# EAGLE library part AS1130 (library Strutz Electronic Industries)
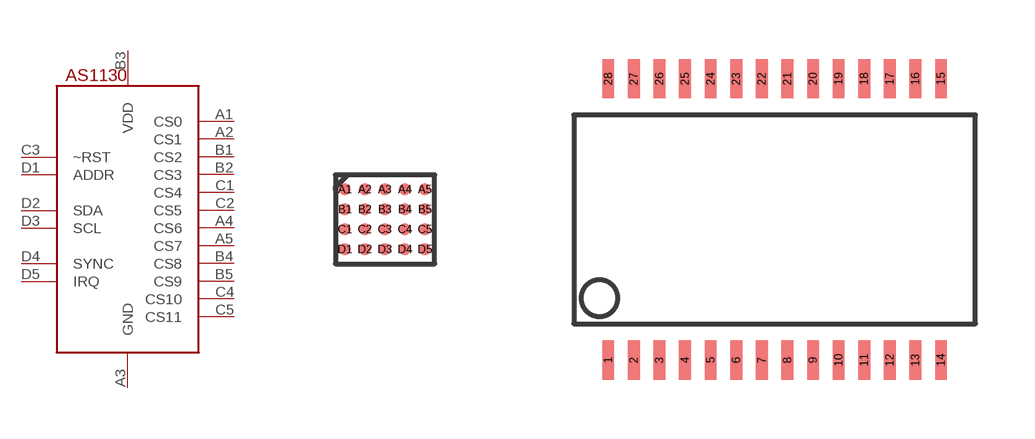
[diagram p25: symbol with the pads of WL_CSP-20; footprints WL_CSP-20, TSSOP-28]

Designator prefix -

## AS1130BWLT  [WL_CSP-20]
A1  CS0
A2  CS1
A3  GND
A4  CS6
A5  CS7
B1  CS2
B2  CS3
B3  VDD
B4  CS8
B5  CS9
C1  CS4
C2  CS5
C3  ~RST
C4  CS10
C5  CS11
D1  ADDR
D2  SDA
D3  SCL
D4  SYNC
D5  IRQ

## AS1130BSST  [TSSOP-28]
1  GND
2  CS6
3  VDD
4  CS7
5  CS8
6  CS9
7  GND
8  CS11
9  CS10
10  VDD
11  IRQ
12  SYNC
13  ~RST
14  GND
15  SCL
16  SDA
17  ADDR
18  VDD
19  VDD
20  CS5
21  CS4
22  GND
23  CS2
24  CS3
25  CS0
26  VDD
27  CS1
28  GND

## Footprint WL_CSP-20 (pad centres in mm)
smd 0.3 x 0.3: A1 -1,0.75; A2 -0.5,0.75; A3 0,0.75; A4 0.5,0.75; A5 1,0.75; B1 -1,0.25; B2 -0.5,0.25; B3 0,0.25; B4 0.5,0.25; B5 1,0.25; C1 -1,-0.25; C2 -0.5,-0.25; C3 0,-0.25; C4 0.5,-0.25; C5 1,-0.25; D1 -1,-0.75; D2 -0.5,-0.75; D3 0,-0.75; D4 0.5,-0.75; D5 1,-0.75

## Footprint TSSOP-28 (pad centres in mm)
smd 0.3 x 1: 1 -4.225,-3.575; 2 -3.575,-3.575; 3 -2.925,-3.575; 4 -2.275,-3.575; 5 -1.625,-3.575; 6 -0.975,-3.575; 7 -0.325,-3.575; 8 0.325,-3.575; 9 0.975,-3.575; 10 1.625,-3.575; 11 2.275,-3.575; 12 2.925,-3.575; 13 3.575,-3.575; 14 4.225,-3.575; 15 4.225,3.575; 16 3.575,3.575; 17 2.925,3.575; 18 2.275,3.575; 19 1.625,3.575; 20 0.975,3.575; 21 0.325,3.575; 22 -0.325,3.575; 23 -0.975,3.575; 24 -1.625,3.575; 25 -2.275,3.575; 26 -2.925,3.575; 27 -3.575,3.575; 28 -4.225,3.575